# EAGLE library part RP2040 (library ic)
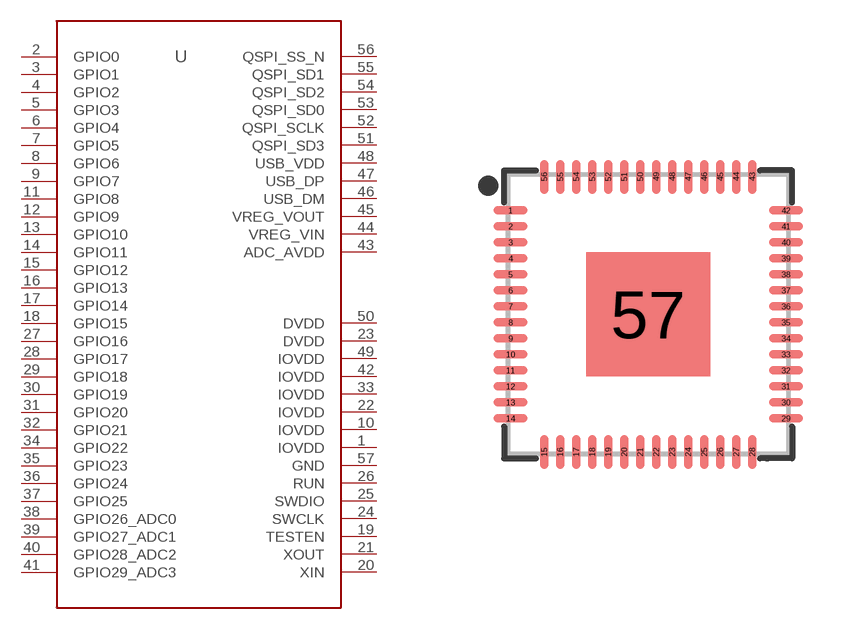
[diagram p17: symbol with the pads of QFN40P700X700X100-57T310N; footprint QFN40P700X700X100-57T310N]

Designator prefix U

## RP2040  [QFN40P700X700X100-57T310N]
1  IOVDD
2  GPIO0
3  GPIO1
4  GPIO2
5  GPIO3
6  GPIO4
7  GPIO5
8  GPIO6
9  GPIO7
10  IOVDD
11  GPIO8
12  GPIO9
13  GPIO10
14  GPIO11
15  GPIO12
16  GPIO13
17  GPIO14
18  GPIO15
19  TESTEN
20  XIN
21  XOUT
22  IOVDD
23  DVDD
24  SWCLK
25  SWDIO
26  RUN
27  GPIO16
28  GPIO17
29  GPIO18
30  GPIO19
31  GPIO20
32  GPIO21
33  IOVDD
34  GPIO22
35  GPIO23
36  GPIO24
37  GPIO25
38  GPIO26_ADC0
39  GPIO27_ADC1
40  GPIO28_ADC2
41  GPIO29_ADC3
42  IOVDD
43  ADC_AVDD
44  VREG_VIN
45  VREG_VOUT
46  USB_DM
47  USB_DP
48  USB_VDD
49  IOVDD
50  DVDD
51  QSPI_SD3
52  QSPI_SCLK
53  QSPI_SD0
54  QSPI_SD2
55  QSPI_SD1
56  QSPI_SS_N
57  GND

## Footprint QFN40P700X700X100-57T310N (pad centres in mm)
56-QFN, 0.40 mm pitch, 7.00 X 7.00 X 1.00 mm body, 3.10 X 3.10 mm thermal pad 56-pin QFN package with 0.40 mm pitch with body size 7.00 X 7.00 X 1.00 mm and thermal pad size 3.10 X 3.10 mm
smd 0.858 x 0.218: 1 -3.442,2.6; 2 -3.442,2.2; 3 -3.442,1.8; 4 -3.442,1.4; 5 -3.442,1; 6 -3.442,0.6; 7 -3.442,0.2; 8 -3.442,-0.2; 9 -3.442,-0.6; 10 -3.442,-1; 11 -3.442,-1.4; 12 -3.442,-1.8; 13 -3.442,-2.2; 14 -3.442,-2.6; 29 3.442,-2.6; 30 3.442,-2.2; 31 3.442,-1.8; 32 3.442,-1.4; 33 3.442,-1; 34 3.442,-0.6; 35 3.442,-0.2; 36 3.442,0.2; 37 3.442,0.6; 38 3.442,1; 39 3.442,1.4; 40 3.442,1.8; 41 3.442,2.2; 42 3.442,2.6
smd 0.218 x 0.858: 15 -2.6,-3.442; 16 -2.2,-3.442; 17 -1.8,-3.442; 18 -1.4,-3.442; 19 -1,-3.442; 20 -0.6,-3.442; 21 -0.2,-3.442; 22 0.2,-3.442; 23 0.6,-3.442; 24 1,-3.442; 25 1.4,-3.442; 26 1.8,-3.442; 27 2.2,-3.442; 28 2.6,-3.442; 43 2.6,3.442; 44 2.2,3.442; 45 1.8,3.442; 46 1.4,3.442; 47 1,3.442; 48 0.6,3.442; 49 0.2,3.442; 50 -0.2,3.442; 51 -0.6,3.442; 52 -1,3.442; 53 -1.4,3.442; 54 -1.8,3.442; 55 -2.2,3.442; 56 -2.6,3.442
smd 3.1 x 3.1: 57 0,0